# Altium footprint library Buck_Converter.PcbLib: 1 footprints
Each footprint in its own frame and in the unit in brackets; x right, y up, seen from the top. Pads: shape width x height; smd on the part's side, far side on the other; paste and mask are expansions set on the pad; w line width, h text height; cw(c..) or ccw(c..) is an arc to the next point about the centre after c.
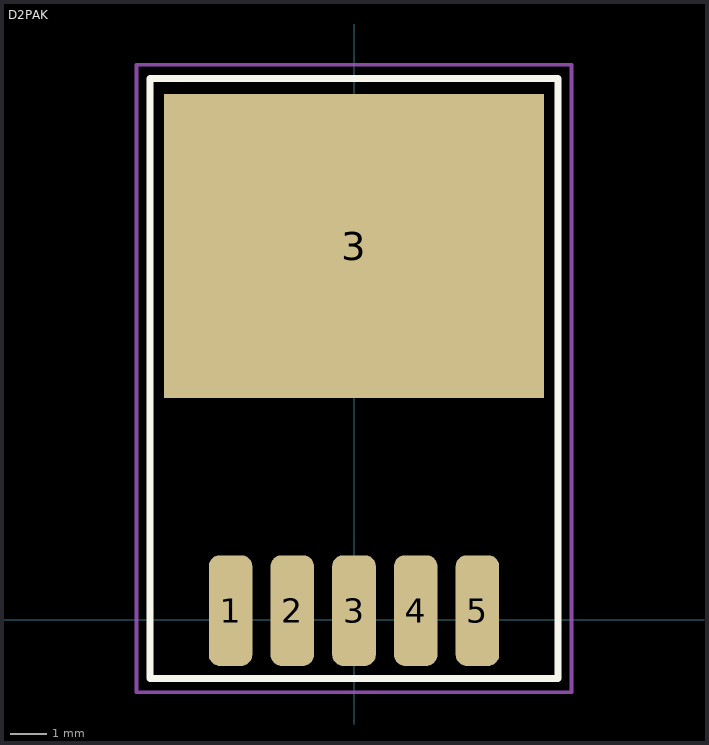
[diagram p0: the footprint, top view; thin cyan lines are the x and y axes]

## D2PAK [mm]
pads (6):
  rrect50% 1.2x3.05 smd: 1(-3.404,0.25) 2(-1.702,0.25) 3(0,0.25) 4(1.702,0.25) 5(3.404,0.25)
  rect 10.49x8.38 smd: 3(0,10.305)
Top Overlay:
  lines w0.2: -5.625,-1.625 -5.625,14.925 5.625,14.925 5.625,-1.625 -5.625,-1.625
Mechanical 15:
  lines w0.1: -6,-2 6,-2 6,15.3 -6,15.3 -6,-2
3D body "LM2596S-12.STEP": height 4.77, standoff -0.03, extent -5.08,0.074 5.08,14.425